# EAGLE library part BOOST_TPS61088 (library PiB_ic_power)
TPS61088 Boost Converter
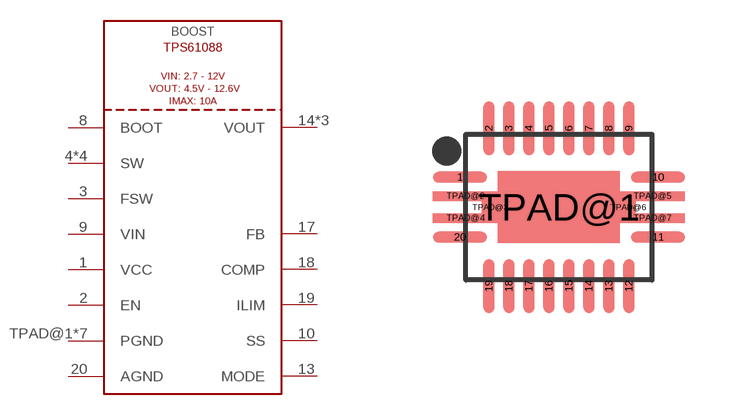
[diagram p4: symbol with the pads of RHL(R-PVQFN-N20); footprint RHL(R-PVQFN-N20)]

Designator prefix BOOST

## BOOST_TPS61088-RHL (CREATOR: Kenmei; DATASHEET: http://www.ti.com/lit/ds/symlink/tps61088.pdf; DIST: Digikey; DISTLINK: https://www.digikey.com/product-detail/en/texas-instruments/TPS61088RHLR/296-43620-1-ND/5864815; DISTPN: 296-43620-1-ND; MFR: Texas Instruments; MPN: TPS61088RHLR; TESTED: NO; VALUE: 4.5V-12.6V/10A)  [RHL(R-PVQFN-N20)]
1  VCC
2  EN
3  FSW
4  SW
5  SW
6  SW
7  SW
8  BOOT
9  VIN
10  SS
13  MODE
14  VOUT
15  VOUT
16  VOUT
17  FB
18  COMP
19  ILIM
20  AGND
TPAD@1  PGND
TPAD@2  PGND
TPAD@3  PGND
TPAD@4  PGND
TPAD@5  PGND
TPAD@6  PGND
TPAD@7  PGND

## Footprint RHL(R-PVQFN-N20) (pad centres in mm)
smd 1.35 x 0.28: 1 -2.475,0.75; 10 2.475,0.75; 11 2.475,-0.75; 20 -2.475,-0.75
smd 0.28 x 1.35: 2 -1.75,1.975; 3 -1.25,1.975; 4 -0.75,1.975; 5 -0.25,1.975; 6 0.25,1.975; 7 0.75,1.975; 8 1.25,1.975; 9 1.75,1.975; 12 1.75,-1.975; 13 1.25,-1.975; 14 0.75,-1.975; 15 0.25,-1.975; 16 -0.25,-1.975; 17 -0.75,-1.975; 18 -1.25,-1.975; 19 -1.75,-1.975
smd 3.05 x 1.8: TPAD@1 0,0
smd 1.625 x 0.23: TPAD@2 -2.337,0.275; TPAD@4 -2.337,-0.275; TPAD@5 2.337,0.275; TPAD@7 2.337,-0.275
smd 0.4 x 0.32: TPAD@3 -1.725,0; TPAD@6 1.725,0